# EAGLE library part MX25R6435F (library gost_micro)
SPI/QSPI FLASH
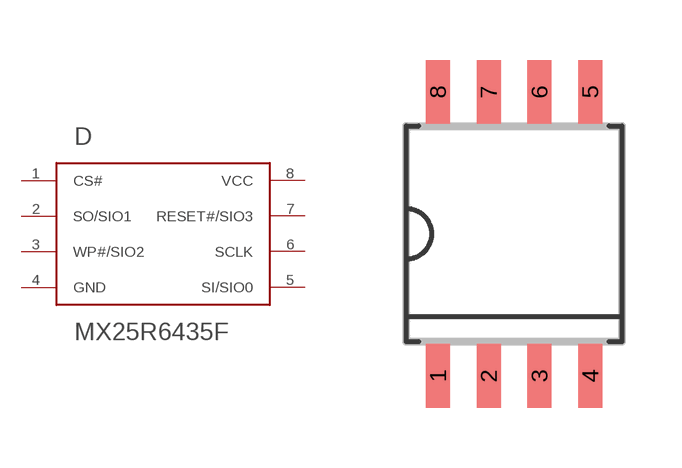
[diagram p28: symbol with the pads of SOP08-200; footprint SOP08-200]

Designator prefix D

## MX25R6435FM2  [SOP08-200]
1  CS#
2  SO/SIO1
3  WP#/SIO2
4  GND
5  SI/SIO0
6  SCLK
7  RESET#/SIO3
8  VCC

## Footprint SOP08-200 (pad centres in mm)
SOP-08 200 mil, pitch 1.27
smd 0.6 x 1.6: 1 -1.905,-3.553; 2 -0.635,-3.553; 3 0.635,-3.553; 4 1.905,-3.553; 5 1.905,3.553; 6 0.635,3.553; 7 -0.635,3.553; 8 -1.905,3.553